# Altium footprint library footprint1.pcblib: 24 footprints (part 1 of 2)
Each footprint in its own frame and in the unit in brackets; x right, y up, seen from the top. Pads: shape width x height; smd on the part's side, far side on the other; paste and mask are expansions set on the pad; w line width, h text height; cw(c..) or ccw(c..) is an arc to the next point about the centre after c.
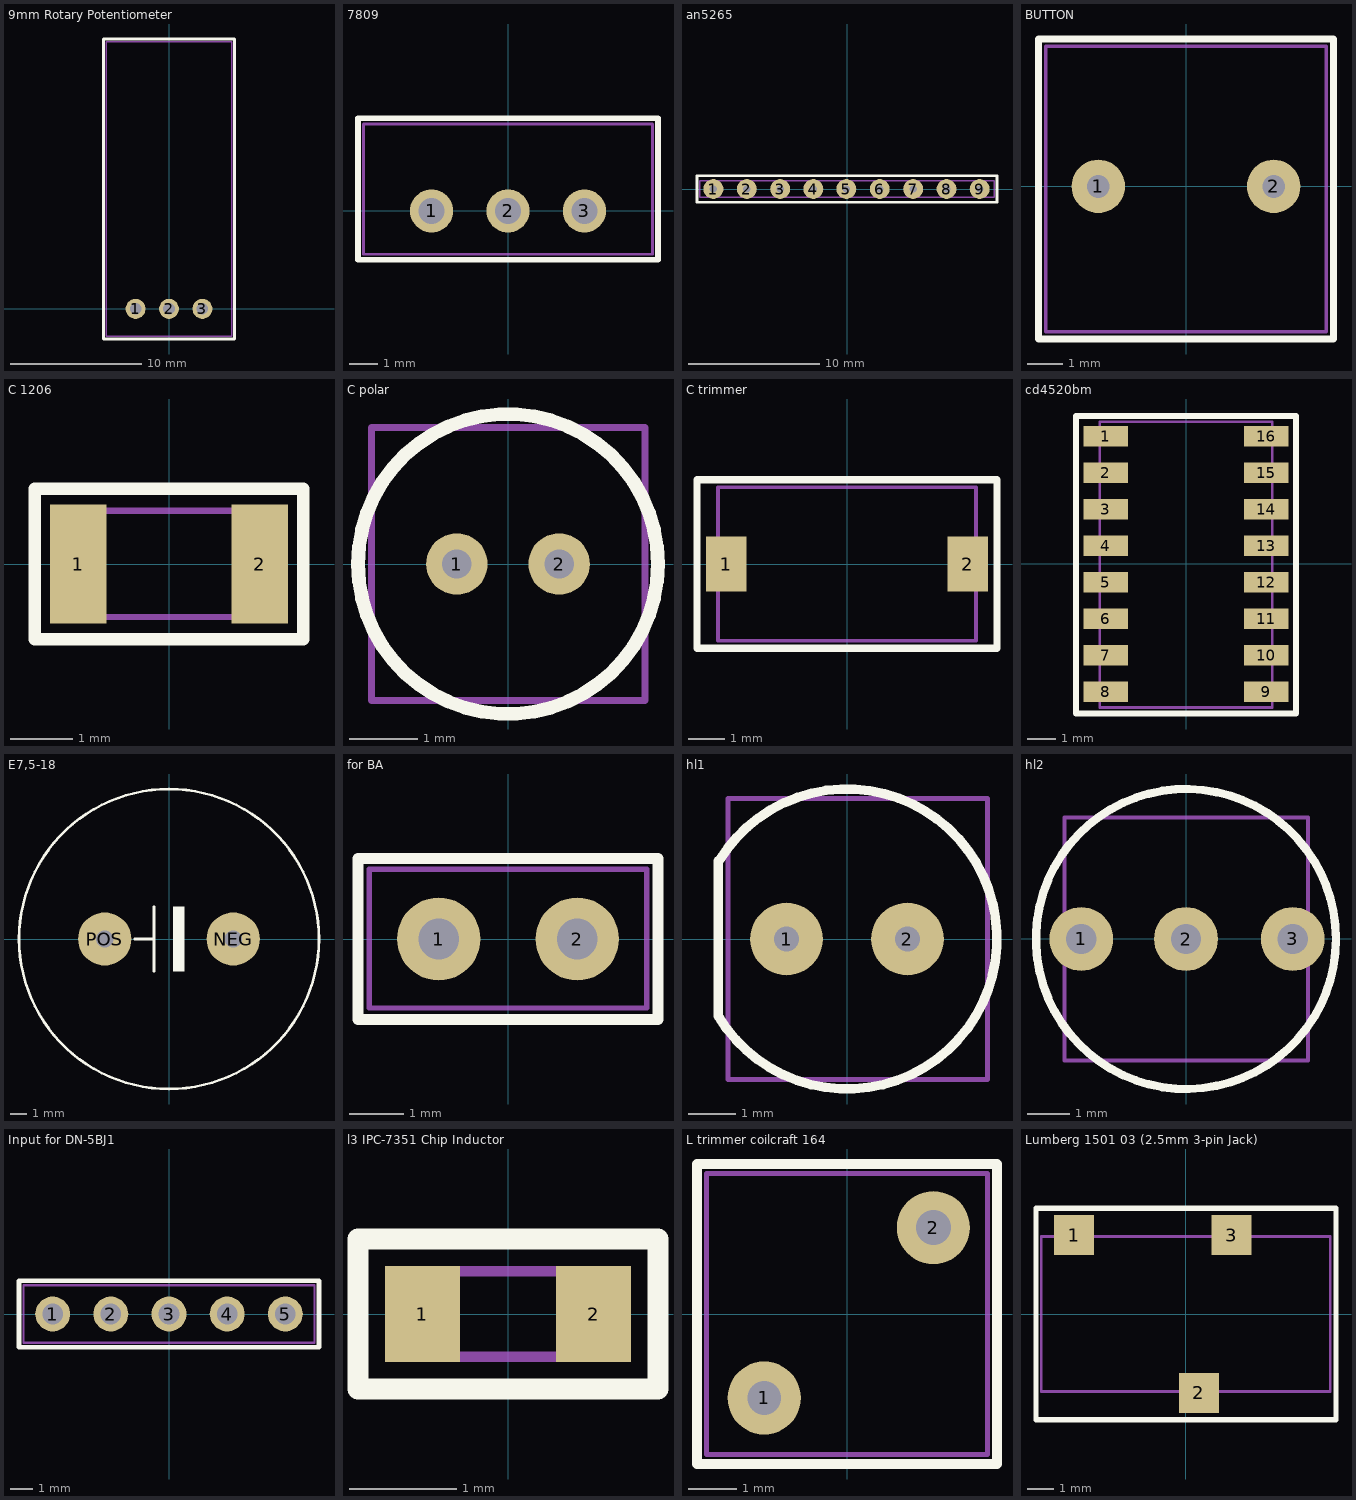
[diagram p0: the footprints below, top view; thin cyan lines are the x and y axes]

## 9mm Rotary Potentiometer [mil]
pads (3):
  round 60 hole 34.65: 1(-100.39,0) 2(0,0) 3(100.39,0)
Top Overlay:
  lines w7.87: -196.85,-90.55 196.85,-90.55 196.85,811.02 -196.85,811.02 -196.85,-90.55
Top Assy:
  lines w3.94: -188.98,-82.68 188.98,-82.68 188.98,803.15 -188.98,803.15 -188.98,-82.68
3D body "User Library-9mm Rotary Horr Pot.STEP": height 448.82, standoff -149.61, extent -188.98,-82.68 188.98,803.15

## 7809 [mil]
pads (3):
  round 60 hole 36.61: 1(-106.3,0) 2(0,0) 3(106.3,0)
Top Overlay:
  lines w7.87: -208.66,-67.91 -208.66,128.94 208.66,128.94 208.66,-67.91 -208.66,-67.91
Top Assy:
  lines w3.94: -200.78,-60.23 200.79,-60.23 200.79,120.87 -200.78,120.87
3D models:
  lines w3.94: -200.78,-60.23 -200.78,120.87
3D body "L7809CV.stp": height 768.31, standoff -704.72, extent -200.78,-60.23 200.79,120.87

## an5265 [mm]
pads (9):
  round 1.524 hole 0.57: 1(-10.2,0) 2(-7.65,0) 3(-5.1,0) 4(-2.57,0) 5(-0.05,0) 6(2.5,0) 7(5.05,0) 8(7.6,0) 9(10.13,0)
Top Overlay:
  lines w0.2: -11.45,-1.025 11.45,-1.025 11.45,1.025 -11.45,1.025 -11.45,-1.025
Top Assy:
  lines w0.1: -11.25,-0.625 -11.25,0.625 11.25,0.625 11.25,-0.625 -11.25,-0.625
3D body "User Library-Resistor Networks-1.STEP": height 5.29, standoff -3.2, extent -11.25,-0.625 11.25,0.625

## BUTTON [mm]
pads (2):
  round 1.524 hole 0.65: 1(-2.5,0) 2(2.5,0)
Top Overlay:
  lines w0.2: -4.2,-4.35 -4.2,4.2 4.2,4.2 4.2,-4.35 -4.2,-4.35
Top Assy:
  lines w0.1: -4,-4.15 -4,4 4,4 4,-4.15 -4,-4.15
3D body "User Library-EVQQJ.STEP": height 6.2, standoff -7.8, extent -4,-4.15 4,4

## C 1206 [mm]
pads (2):
  rect 0.9x1.9 smd: 1(-1.45,0) 2(1.45,0)
Top Overlay:
  lines w0.2: -2.15,-1.2 2.15,-1.2 2.15,1.2 -2.15,1.2 -2.15,-1.2
Top Assy:
  lines w0.1: -1.6,-0.85 1.6,-0.85 1.6,0.85 -1.6,0.85 -1.6,-0.85
3D body "User Library-Vhip cap 1206.STEP": height 1.73, standoff -0.01, extent -1.6,-0.85 1.6,0.85

## C polar [mm]
pads (2):
  round 0.9 hole 0.43: 1(-0.75,0) 2(0.75,0)
Top Overlay:
  circle w0.2: c0,0 r2.2
Top Assy:
  lines w0.1: -2,-2 -2,2 2.01,2 2.01,-2 -2,-2
3D body "User Library-Capacitor Radial Electrolitic.STEP": height 7.21, standoff -2.5, extent -2,-2 2.01,2

## C trimmer [mm]
pads (2):
  rect 1.1x1.5 smd: 1(-3.3,0) 2(3.3,0)
Top Overlay:
  lines w0.2: -4.1,-2.3 3.875,-2.3 4.1,-2.3 4.1,2.3 -4.1,2.3 -4.1,-2.3
Top Assy:
  lines w0.1: -3.525,-2.1 3.525,-2.1 3.525,2.1 -3.525,2.1 -3.525,-2.1
3D body "User Library-trimmer.STEP": height 3.23, standoff -0.02, extent -3.523,-2.1 3.523,2.1

## cd4520bm [mm]
pads (16):
  rect 1.55x0.7 smd: 1(-2.8,4.445) 2(-2.8,3.175) 3(-2.8,1.905) 4(-2.8,0.635) 5(-2.8,-0.635) 6(-2.8,-1.905) 7(-2.8,-3.175) 8(-2.8,-4.445) 9(2.8,-4.445) 10(2.8,-3.175) 11(2.8,-1.905) 12(2.8,-0.635) 13(2.8,0.635) 14(2.8,1.905) 15(2.8,3.175) 16(2.8,4.445)
Top Overlay:
  lines w0.2: -3.825,-5.2 3.825,-5.2 3.825,5.15 -3.825,5.15 -3.825,-5.2
3D models:
  lines w0.1: -3,-5 3,-5 3,4.95 -3,4.95 -3,-5
3D body "CD4520BM.stp": height 1.75, standoff 0, extent -3,-4.95 3,4.95

## E7,5-18 [mil]
pads (2):
  round 124 hole 40: NEG(150,0) POS(-150,0)
Top Overlay:
  circle w6: c0,0 r350
  region: 35,-75.04 10.01,-75.04 10.01,75 35,75
  lines w6: -80,0 -35,0 ; -35,-75 -35,0 ; -35,75 -35,0
3D body "EEU-FR1J101LB--3DModel-STEP-56544.STEP": height 1279.53, standoff -78.74, extent -164.37,-161.41 150.59,153.55

## for BA [mil]
pads (2):
  round 60 hole 29.53: 1(-50,0) 2(50,0)
Top Overlay:
  lines w7.87: -108.27,-58.07 108.27,-58.07 108.27,58.07 -108.27,58.07 -108.27,-58.07
Top Assy:
  lines w3.94: -100,-49.8 100,-49.8 100,50.2 -100,50.2 -100,-49.8
3D body "User Library-PBS-02.STEP": height 334.65, standoff -122.05, extent -100,-49.8 100,50.2

## hl1 [mil]
pads (2):
  round 60 hole 20.47: 1(-50,0) 2(50,0)
Top Overlay:
  lines w7.87: -106.3,-63.95 -106.3,64.67 ; -106.26,-63.95 ccw(c0,0) -105.82,64.67
Top Assy:
  lines w3.94: -98.42,-116.13 116.15,-116.13 116.15,116.15 -98.42,116.15 -98.42,-116.13
3D body "hl1.STEP": height 342.5, standoff -385.83, extent -98.42,-116.13 116.15,116.15

## hl2 [mil]
pads (3):
  round 60 hole 28.35: 1(-98.43,0) 2(0,0) 3(100.39,0)
Top Overlay:
  circle w7.87: c0,0 r140.97
Top Assy:
  lines w3.94: -114.18,-114.17 114.58,-114.17 114.58,114.18 -114.18,114.18 -114.18,-114.17
3D body "User Library-led 5mm 3 pin.STEP": height 413.39, standoff -295.28, extent -114.18,-114.17 114.58,114.18

## Input for DN-5BJ1 [mil]
pads (5):
  round 60 hole 35.43: 1(-200,0) 2(-100,0) 3(0,0) 4(100,0) 5(200,0)
Top Overlay:
  lines w7.87: -257.87,-57.09 257.87,-57.09 257.87,57.09 -257.87,57.09 -257.87,-57.09
Top Assy:
  lines w3.94: -250,-49.21 -250,49.21 250,49.21 250,-49.21 -250,-49.21
3D body "User Library-ZL262-5SG.STEP": height 334.65, standoff -120.08, extent -250,-49.21 250,49.21

## l3 IPC-7351 Chip Inductor [mm]
pads (2):
  rect 0.7x0.9 smd: 1(-0.8,0) 2(0.8,0)
Top Overlay:
  lines w0.2: -1.4,-0.7 1.4,-0.7 1.4,0.7 -1.4,0.7 -1.4,-0.7
Top Assy:
  lines w0.1: -0.8,-0.4 -0.8,0.4 0.8,0.4 0.8,-0.4 -0.8,-0.4
3D body "User Library-Chip Inductor (1).step": height 0.95, standoff 0, extent -0.8,-0.4 0.8,0.4

## L trimmer coilcraft 164 [mm]
pads (2):
  round 1.524 hole 0.7: 1(-1.725,-1.75)
  round 1.524 hole 0.73: 2(1.8,1.8)
Top Overlay:
  lines w0.2: -3.125,-3.125 -3.125,3.125 3.125,3.125 3.125,-3.125 -3.125,-3.125
Top Assy:
  lines w0.1: -2.925,-2.925 2.925,-2.925 2.925,2.925 -2.925,2.925 -2.925,-2.925
3D body "Coilcraft 164 1.STEP": height 8.36, standoff -3.33, extent -2.92,-2.92 2.923,2.92

## Lumberg 1501 03 (2.5mm 3-pin Jack) [mm]
pads (3):
  rect 1.524x1.524 smd: 1(-4.25,3) 2(0.5,-3) 3(1.75,3)
Top Overlay:
  lines w0.2: -5.7,-4.025 5.725,-4.025 5.725,4.025 -5.7,4.025 -5.7,-4.025
Top Assy:
  lines w0.1: -5.5,-2.95 -5.5,2.95 5.5,2.95 5.5,-2.95 -5.5,-2.95
3D body "User Library-jack.STEP": height 5.17, standoff -0.03, extent -5.5,-2.95 5.5,2.95